# Altium footprint library DIODE.PcbLib: 1 footprints
Each footprint in its own frame and in the unit in brackets; x right, y up, seen from the top. Pads: shape width x height; smd on the part's side, far side on the other; paste and mask are expansions set on the pad; w line width, h text height; cw(c..) or ccw(c..) is an arc to the next point about the centre after c.
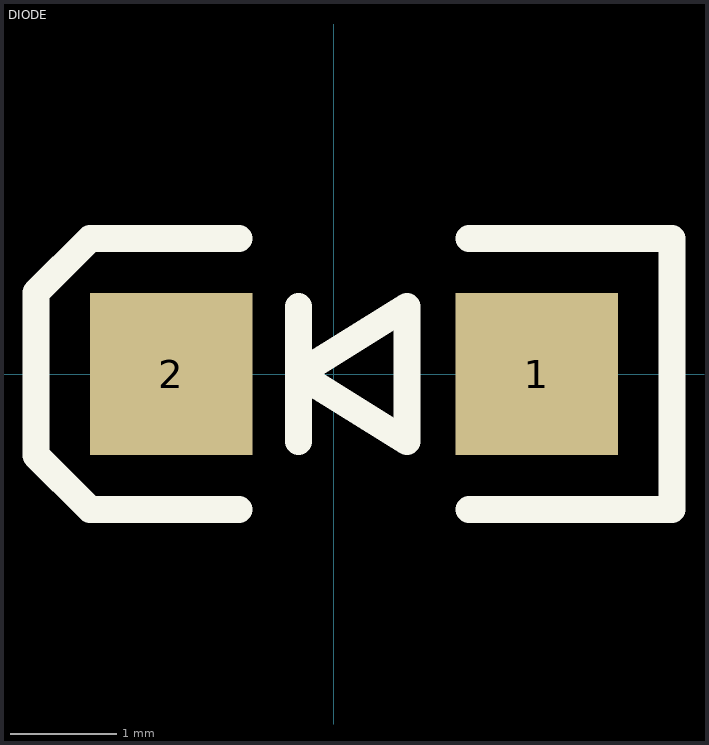
[diagram p0: the footprint, top view; thin cyan lines are the x and y axes]

## DIODE [mil] "DIODE"
pads (2):
  rect 60x60 smd: 1(75,0) 2(-60,0)
Top Overlay:
  lines w10: -35,-50 -90,-50 -110,-30 -110,30 -90,50 -35,50 ; -13,-25 -13,25 ; 50,-50 125,-50 125,50 50,50 ; -13,0 27,-25 27,25 -13,0